# Altium schematic symbol library SGX-7OX.SchLib: 1 symbol
Pins are listed as number, name and electrical type; pins without a type are passive.

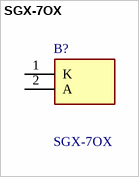
[diagram p0: symbol SGX-7OX]

## SGX-7OX
designator B?
Air Quality Sensors 7 Series O2 sensor 0-25% 2 year life; Manufacturer_Name: Amphenol; Geometry.Height: 16.55mm; TTi Part Number: *; TTi Price/Stock: *; Manufacturer_Part_Number: SGX-7OX; Datasheet Link: https://www.sgxsensortech.com/content/uploads/2019/07/DS-0147-SGX-7OX-datasheet-v7.pdf
footprint SGX7OX
pins: 1 K, 2 A